# Altium integrated library Oscillators - Crystals.IntLib: 746 symbols (part 12 of 17)
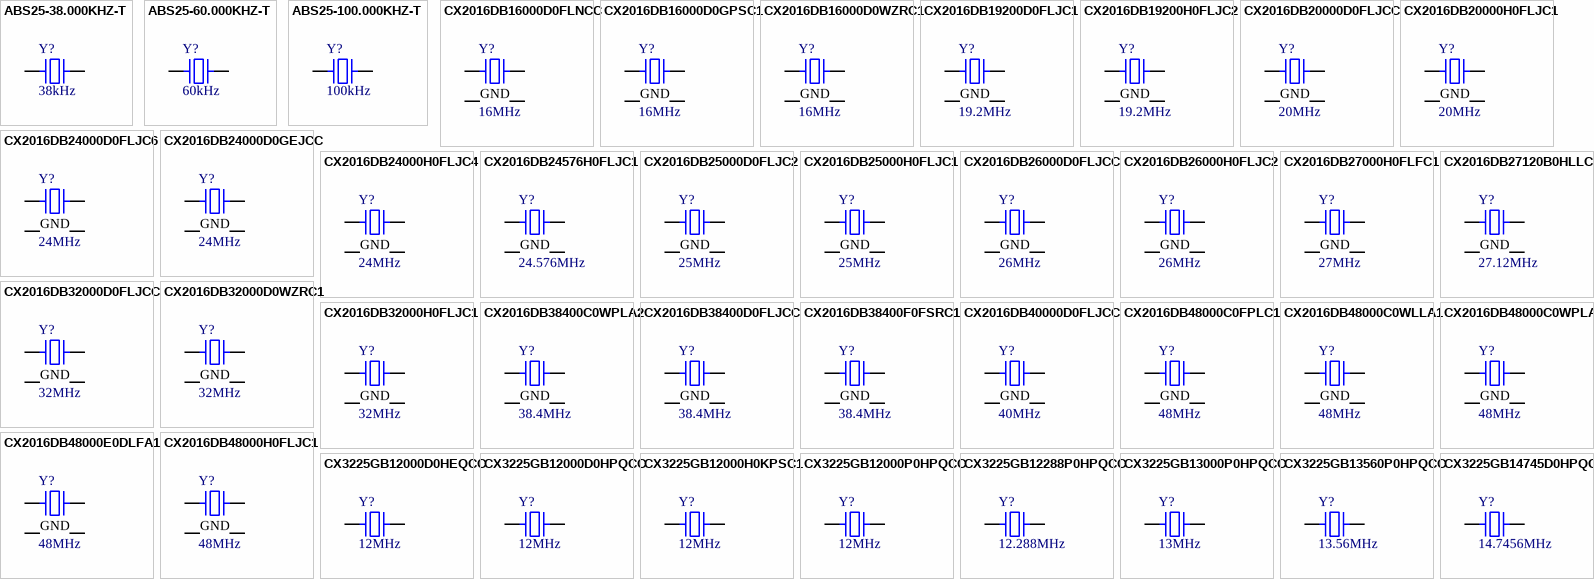
[diagram p29: symbols ABS25-38.000KHZ-T to CX3225GB14745D0HPQCC]

## CX2016DB32000H0FLJC1
designator Y?, comment 32MHz
CRYSTAL 32.0000MHZ 12PF SMD; Part Number: CX2016DB32000H0FLJC1; Manufacturer: Kyocera International Inc. Electronic Components; ESR (Equivalent Series Resistance): 60 Ohms; Frequency Stability: ±15ppm; Frequency Tolerance: ±10ppm; Operating Mode: Fundamental; ComponentLink1Description: Datasheet; ComponentLink1URL: //media.digikey.com/pdf/Data%20Sheets/AVX%20PDFs/CX2016DB_USY1M-H1-16426-00_Spec.pdf; ComponentLink2Description: DigiKey Link; ComponentLink2URL: http://digikey.com/product-detail/en/kyocera-international-inc-electronic-components/CX2016DB32000H0FLJC1/1253-1711-1-ND/6123338; Frequency: 32MHz; Height - Seated (Max): 0.018" (0.45mm); LastUpdated: 9/2/2020 1:21:56 AM; Lifecycle Status: Active; Load Capacitance: 12pF; Minimum Order: 1; Mounting Type: Surface Mount; Operating Temperature: -30°C ~ 85°C; Package / Case: 4-SMD, No Lead; Packaging: TapeAndReel; PartId: 478; Part Status: Active; Price: 0.36; Series: CX2016DB, Kyocera; Size / Dimension: 0.079" L x 0.063" W (2.00mm x 1.60mm); Supplier 1: DigiKey; Supplier Part Number 1: 1253-1711-1-ND; Type: MHz Crystal; Value: 32MHz
footprint KYOCERA CX2016DB
pins: 1, 2 GND, 3, 4 GND

## CX2016DB38400C0WPLA2
designator Y?, comment 38.4MHz
CRYSTAL 38.4000MHZ 7PF SMD; Part Number: CX2016DB38400C0WPLA2; Manufacturer: Kyocera International Inc. Electronic Components; ESR (Equivalent Series Resistance): 60 Ohms; Frequency Stability: ±20ppm; Operating Mode: Fundamental; ComponentLink1Description: Datasheet; ComponentLink1URL: https://global.kyocera.com/prdct/electro/product/pdf/cx2016db_e.pdf; ComponentLink2Description: DigiKey Link; ComponentLink2URL: http://digikey.com/product-detail/en/kyocera-international-inc-electronic-components/CX2016DB38400C0WPLA2/1253-1782-1-ND/6554924; Frequency: 38.4MHz; Frequency Tolerance: ±20ppm; Height - Seated (Max): 0.018" (0.45mm); LastUpdated: 9/2/2020 1:21:56 AM; Lifecycle Status: Active; Load Capacitance: 7pF; Minimum Order: 1; Mounting Type: Surface Mount; Operating Temperature: -40°C ~ 85°C; Package / Case: 4-SMD, No Lead; Packaging: TapeAndReel; PartId: 464; Part Status: Active; Price: 0.32; Series: CX2016DB, Kyocera; Size / Dimension: 0.079" L x 0.063" W (2.00mm x 1.60mm); Supplier 1: DigiKey; Supplier Part Number 1: 1253-1782-1-ND; Type: MHz Crystal; Value: 38.4MHz
footprint KYOCERA CX2016DB
pins: 1, 2 GND, 3, 4 GND

## CX2016DB38400D0FLJCC
designator Y?, comment 38.4MHz
CRYSTAL 38.4000MHZ 8PF SMD; Part Number: CX2016DB38400D0FLJCC; Manufacturer: Kyocera International Inc. Electronic Components; ESR (Equivalent Series Resistance): 60 Ohms; Frequency Stability: ±15ppm; Frequency Tolerance: ±10ppm; Operating Mode: Fundamental; ComponentLink1Description: Datasheet; ComponentLink1URL: //media.digikey.com/pdf/Data%20Sheets/Optrex%20PDFs/CX2016DB_Series_Spec.pdf; ComponentLink2Description: DigiKey Link; ComponentLink2URL: http://digikey.com/product-detail/en/kyocera-international-inc-electronic-components/CX2016DB38400D0FLJCC/1253-1119-1-ND/4453937; Frequency: 38.4MHz; Height - Seated (Max): 0.018" (0.45mm); LastUpdated: 9/2/2020 1:21:56 AM; Lifecycle Status: Active; Load Capacitance: 8pF; Minimum Order: 1; Mounting Type: Surface Mount; Operating Temperature: -30°C ~ 85°C; Package / Case: 4-SMD, No Lead; Packaging: TapeAndReel; PartId: 465; Part Status: Active; Price: 0.36; Series: CX2016DB, Kyocera; Size / Dimension: 0.079" L x 0.063" W (2.00mm x 1.60mm); Supplier 1: DigiKey; Supplier Part Number 1: 1253-1119-1-ND; Type: MHz Crystal; Value: 38.4MHz
footprint KYOCERA CX2016DB
pins: 1, 2 GND, 3, 4 GND

## CX2016DB38400F0FSRC1
designator Y?, comment 38.4MHz
CRYSTAL 38.4MHZ 10PF; Part Number: CX2016DB38400F0FSRC1; Manufacturer: Kyocera International Inc. Electronic Components; ESR (Equivalent Series Resistance): 40 Ohms; Frequency Stability: ±40ppm; Frequency Tolerance: ±10ppm; Operating Mode: Fundamental; ComponentLink1Description: Datasheet; ComponentLink1URL: //media.digikey.com/pdf/Data%20Sheets/Kyocera%20International/CX2016DB38400F0FSRC1_Prelim.pdf; ComponentLink2Description: DigiKey Link; ComponentLink2URL: http://digikey.com/product-detail/en/kyocera-international-inc-electronic-components/CX2016DB38400F0FSRC1/1253-2044-1-ND/9749122; Frequency: 38.4MHz; Height - Seated (Max): 0.018" (0.45mm); LastUpdated: 9/2/2020 1:21:56 AM; Lifecycle Status: Active; Load Capacitance: 10pF; Minimum Order: 1; Mounting Type: Surface Mount; Operating Temperature: -40°C ~ 125°C; Package / Case: 4-SMD, No Lead; Packaging: TapeAndReel; PartId: 460; Part Status: Active; Price: 0.58; Series: CX2016DB, Kyocera; Size / Dimension: 0.079" L x 0.063" W (2.00mm x 1.60mm); Supplier 1: DigiKey; Supplier Part Number 1: 1253-2044-1-ND; Type: MHz Crystal; Value: 38.4MHz
footprint KYOCERA CX2016DB
pins: 1, 2 GND, 3, 4 GND

## CX2016DB40000D0FLJCC
designator Y?, comment 40MHz
CRYSTAL 40.0000MHZ 8PF SMD; Part Number: CX2016DB40000D0FLJCC; Manufacturer: Kyocera International Inc. Electronic Components; ESR (Equivalent Series Resistance): 50 Ohms; Frequency Stability: ±15ppm; Frequency Tolerance: ±10ppm; Operating Mode: Fundamental; ComponentLink1Description: Datasheet; ComponentLink1URL: //media.digikey.com/pdf/Data%20Sheets/Optrex%20PDFs/CX2016DB_Series_Spec.pdf; ComponentLink2Description: DigiKey Link; ComponentLink2URL: http://digikey.com/product-detail/en/kyocera-international-inc-electronic-components/CX2016DB40000D0FLJCC/1253-1120-1-ND/4453938; Frequency: 40MHz; Height - Seated (Max): 0.018" (0.45mm); LastUpdated: 9/2/2020 1:21:56 AM; Lifecycle Status: Active; Load Capacitance: 8pF; Minimum Order: 1; Mounting Type: Surface Mount; Operating Temperature: -30°C ~ 85°C; Package / Case: 4-SMD, No Lead; Packaging: TapeAndReel; PartId: 471; Part Status: Active; Price: 0.48; Series: CX2016DB, Kyocera; Size / Dimension: 0.079" L x 0.063" W (2.00mm x 1.60mm); Supplier 1: DigiKey; Supplier Part Number 1: 1253-1120-1-ND; Type: MHz Crystal; Value: 40MHz
footprint KYOCERA CX2016DB
pins: 1, 2 GND, 3, 4 GND

## CX2016DB48000C0FPLC1
designator Y?, comment 48MHz
CRYSTAL 48MHZ SMD; Part Number: CX2016DB48000C0FPLC1; Manufacturer: Kyocera International Inc. Electronic Components; ESR (Equivalent Series Resistance): 50 Ohms; Frequency Stability: ±20ppm; Frequency Tolerance: ±10ppm; Load Capacitance: 7pF; Operating Mode: Fundamental; ComponentLink1Description: Datasheet; ComponentLink1URL: //media.digikey.com/pdf/Data%20Sheets/Kyocera%20International/CX2016DB48000C0FPLC1_DS.pdf; ComponentLink2Description: DigiKey Link; ComponentLink2URL: http://digikey.com/product-detail/en/kyocera-international-inc-electronic-components/CX2016DB48000C0FPLC1/1253-2042-1-ND/9698139; Frequency: 48MHz; Height - Seated (Max): 0.018" (0.45mm); LastUpdated: 9/2/2020 1:21:56 AM; Lifecycle Status: Active; Minimum Order: 1; Mounting Type: Surface Mount; Operating Temperature: -40°C ~ 85°C; Package / Case: 4-SMD, No Lead; Packaging: TapeAndReel; PartId: 459; Part Status: Active; Price: 0.38; Series: CX2016DB, Kyocera; Size / Dimension: 0.079" L x 0.063" W (2.00mm x 1.60mm); Supplier 1: DigiKey; Supplier Part Number 1: 1253-2042-1-ND; Type: MHz Crystal; Value: 48MHz
footprint KYOCERA CX2016DB
pins: 1, 2 GND, 3, 4 GND

## CX2016DB48000C0WLLA1
designator Y?, comment 48MHz
CRYSTAL 48MHZ 7PF SMD; Part Number: CX2016DB48000C0WLLA1; Manufacturer: Kyocera International Inc. Electronic Components; ESR (Equivalent Series Resistance): 50 Ohms; Frequency Stability: ±20ppm; Operating Mode: Fundamental; ComponentLink1Description: Datasheet; ComponentLink1URL: https://global.kyocera.com/prdct/electro/product/pdf/cx2016db_e.pdf; ComponentLink2Description: DigiKey Link; ComponentLink2URL: http://digikey.com/product-detail/en/kyocera-international-inc-electronic-components/CX2016DB48000C0WLLA1/1253-1388-1-ND/5181912; Frequency: 48MHz; Frequency Tolerance: ±20ppm; Height - Seated (Max): 0.018" (0.45mm); LastUpdated: 9/2/2020 1:21:56 AM; Lifecycle Status: Active; Load Capacitance: 7pF; Minimum Order: 1; Mounting Type: Surface Mount; Operating Temperature: -30°C ~ 85°C; Package / Case: 4-SMD, No Lead; Packaging: TapeAndReel; PartId: 483; Part Status: Active; Price: 0.41; Series: CX2016DB, Kyocera; Size / Dimension: 0.079" L x 0.063" W (2.00mm x 1.60mm); Supplier 1: DigiKey; Supplier Part Number 1: 1253-1388-1-ND; Type: MHz Crystal; Value: 48MHz
footprint KYOCERA CX2016DB
pins: 1, 2 GND, 3, 4 GND

## CX2016DB48000C0WPLA2
designator Y?, comment 48MHz
CRYSTAL 48.0000MHZ 7PF SMD; Part Number: CX2016DB48000C0WPLA2; Manufacturer: Kyocera International Inc. Electronic Components; ESR (Equivalent Series Resistance): 50 Ohms; Frequency Stability: ±15ppm; Frequency Tolerance: ±20ppm; Operating Mode: Fundamental; ComponentLink1Description: Datasheet; ComponentLink1URL: https://global.kyocera.com/prdct/electro/product/pdf/cx2016db_e.pdf; ComponentLink2Description: DigiKey Link; ComponentLink2URL: http://digikey.com/product-detail/en/kyocera-international-inc-electronic-components/CX2016DB48000C0WPLA2/1253-1345-1-ND/4896435; Frequency: 48MHz; Height - Seated (Max): 0.018" (0.45mm); LastUpdated: 9/2/2020 1:21:56 AM; Lifecycle Status: Active; Load Capacitance: 7pF; Minimum Order: 1; Mounting Type: Surface Mount; Operating Temperature: -40°C ~ 85°C; Package / Case: 4-SMD, No Lead; Packaging: TapeAndReel; PartId: 472; Part Status: Active; Price: 0.48; Series: CX2016DB, Kyocera; Size / Dimension: 0.079" L x 0.063" W (2.00mm x 1.60mm); Supplier 1: DigiKey; Supplier Part Number 1: 1253-1345-1-ND; Type: MHz Crystal; Value: 48MHz
footprint KYOCERA CX2016DB
pins: 1, 2 GND, 3, 4 GND

## CX2016DB48000E0DLFA1
designator Y?, comment 48MHz
CRYSTALS 48.0000MHZ 9PF SMD; Part Number: CX2016DB48000E0DLFA1; Manufacturer: Kyocera International Inc. Electronic Components; ESR (Equivalent Series Resistance): 50 Ohms; Frequency Stability: ±10ppm; Frequency Tolerance: ±8ppm; Load Capacitance: 11.1pF; Operating Mode: Fundamental; ComponentLink1Description: Datasheet; ComponentLink1URL: //media.digikey.com/pdf/Data%20Sheets/AVX%20PDFs/CX2016DB48000E0DLFA1_Spec.pdf; ComponentLink2Description: DigiKey Link; ComponentLink2URL: http://digikey.com/product-detail/en/kyocera-international-inc-electronic-components/CX2016DB48000E0DLFA1/1253-1783-1-ND/6563405; Frequency: 48MHz; Height - Seated (Max): 0.018" (0.45mm); LastUpdated: 9/2/2020 1:21:56 AM; Lifecycle Status: Active; Minimum Order: 1; Mounting Type: Surface Mount; Operating Temperature: -30°C ~ 85°C; Package / Case: 4-SMD, No Lead; Packaging: TapeAndReel; PartId: 462; Part Status: Active; Price: 0.59; Series: CX2016DB, Kyocera; Size / Dimension: 0.079" L x 0.063" W (2.00mm x 1.60mm); Supplier 1: DigiKey; Supplier Part Number 1: 1253-1783-1-ND; Type: MHz Crystal; Value: 48MHz
footprint KYOCERA CX2016DB
pins: 1, 2 GND, 3, 4 GND

## CX2016DB48000H0FLJC1
designator Y?, comment 48MHz
CRYSTAL 48.0000MHZ 12PF SMD; Part Number: CX2016DB48000H0FLJC1; Manufacturer: Kyocera International Inc. Electronic Components; ESR (Equivalent Series Resistance): 50 Ohms; Frequency Stability: ±15ppm; Frequency Tolerance: ±10ppm; Operating Mode: Fundamental; ComponentLink1Description: Datasheet; ComponentLink1URL: //media.digikey.com/pdf/Data%20Sheets/AVX%20PDFs/CX2016DB_USY1M-H1-16426-00_Spec.pdf; ComponentLink2Description: DigiKey Link; ComponentLink2URL: http://digikey.com/product-detail/en/kyocera-international-inc-electronic-components/CX2016DB48000H0FLJC1/1253-1712-1-ND/6123339; Frequency: 48MHz; Height - Seated (Max): 0.018" (0.45mm); LastUpdated: 9/2/2020 1:21:56 AM; Lifecycle Status: Active; Load Capacitance: 12pF; Minimum Order: 1; Mounting Type: Surface Mount; Operating Temperature: -30°C ~ 85°C; Package / Case: 4-SMD, No Lead; Packaging: TapeAndReel; PartId: 480; Part Status: Active; Price: 0.36; Series: CX2016DB, Kyocera; Size / Dimension: 0.079" L x 0.063" W (2.00mm x 1.60mm); Supplier 1: DigiKey; Supplier Part Number 1: 1253-1712-1-ND; Type: MHz Crystal; Value: 48MHz
footprint KYOCERA CX2016DB
pins: 1, 2 GND, 3, 4 GND

## CX3225GB12000D0HEQCC
designator Y?, comment 12MHz
CRYSTAL 12.0000MHZ 8PF SMD; Part Number: CX3225GB12000D0HEQCC; Manufacturer: Kyocera International Inc. Electronic Components; ESR (Equivalent Series Resistance): 250 Ohms; Frequency Stability: ±30ppm; Frequency Tolerance: ±20ppm; Operating Mode: Fundamental; ComponentLink1Description: Datasheet; ComponentLink1URL: //media.digikey.com/pdf/Data%20Sheets/AVX%20PDFs/CX3225GBxD0HEQ_Series_Spec.pdf; ComponentLink2Description: DigiKey Link; ComponentLink2URL: http://digikey.com/product-detail/en/kyocera-international-inc-electronic-components/CX3225GB12000D0HEQCC/1253-1166-1-ND/4453982; Frequency: 12MHz; Height - Seated (Max): 0.035" (0.90mm); LastUpdated: 9/2/2020 1:21:57 AM; Lifecycle Status: Active; Load Capacitance: 8pF; Minimum Order: 1; Mounting Type: Surface Mount; Operating Temperature: -10°C ~ 70°C; Package / Case: 4-SMD, No Lead; Packaging: TapeAndReel; PartId: 487; Part Status: Active; Price: 0.33; Series: CX3225GB, Kyocera; Size / Dimension: 0.126" L x 0.098" W (3.20mm x 2.50mm); Supplier 1: DigiKey; Supplier Part Number 1: 1253-1166-1-ND; Type: MHz Crystal; Value: 12MHz
footprint KYOCERA CX3225GB
pins: 1, 3

## CX3225GB12000D0HPQCC
designator Y?, comment 12MHz
CRYSTAL 12.0000MHZ 8PF SMD; Part Number: CX3225GB12000D0HPQCC; Manufacturer: Kyocera International Inc. Electronic Components; ESR (Equivalent Series Resistance): 250 Ohms; Frequency Stability: ±30ppm; Frequency Tolerance: ±20ppm; Operating Mode: Fundamental; ComponentLink1Description: Datasheet; ComponentLink1URL: //media.digikey.com/pdf/Data%20Sheets/AVX%20PDFs/CX3225GBxD0HPQCC_Series_Spec.pdf; ComponentLink2Description: DigiKey Link; ComponentLink2URL: http://digikey.com/product-detail/en/kyocera-international-inc-electronic-components/CX3225GB12000D0HPQCC/1253-1167-1-ND/4454003; Frequency: 12MHz; Height - Seated (Max): 0.035" (0.90mm); LastUpdated: 9/2/2020 1:21:57 AM; Lifecycle Status: Active; Load Capacitance: 8pF; Minimum Order: 1; Mounting Type: Surface Mount; Operating Temperature: -40°C ~ 85°C; Package / Case: 4-SMD, No Lead; Packaging: TapeAndReel; PartId: 489; Part Status: Active; Price: 0.35; Series: CX3225GB, Kyocera; Size / Dimension: 0.126" L x 0.098" W (3.20mm x 2.50mm); Supplier 1: DigiKey; Supplier Part Number 1: 1253-1167-1-ND; Type: MHz Crystal; Value: 12MHz
footprint KYOCERA CX3225GB
pins: 1, 3

## CX3225GB12000H0KPSC1
designator Y?, comment 12MHz
CRYSTAL 12.0000MHZ 12PF SMD; Part Number: CX3225GB12000H0KPSC1; Manufacturer: Kyocera International Inc. Electronic Components; ESR (Equivalent Series Resistance): 150 Ohms; Frequency Stability: ±50ppm; Frequency Tolerance: ±30ppm; Operating Mode: Fundamental; ComponentLink1Description: Datasheet; ComponentLink1URL: //media.digikey.com/pdf/Data%20Sheets/AVX%20PDFs/CX3225GB12000H0KPSC1_Spec.pdf; ComponentLink2Description: DigiKey Link; ComponentLink2URL: http://digikey.com/product-detail/en/kyocera-international-inc-electronic-components/CX3225GB12000H0KPSC1/1253-1596-1-ND/5765377; Frequency: 12MHz; Height - Seated (Max): 0.035" (0.90mm); LastUpdated: 9/2/2020 1:21:57 AM; Lifecycle Status: Active; Load Capacitance: 12pF; Minimum Order: 1; Mounting Type: Surface Mount; Operating Temperature: -40°C ~ 85°C; Package / Case: 4-SMD, No Lead; Packaging: TapeAndReel; PartId: 503; Part Status: Active; Price: 0.32; Series: CX3225GB, Kyocera; Size / Dimension: 0.126" L x 0.098" W (3.20mm x 2.50mm); Supplier 1: DigiKey; Supplier Part Number 1: 1253-1596-1-ND; Type: MHz Crystal; Value: 12MHz
footprint KYOCERA CX3225GB
pins: 1, 3

## CX3225GB12000P0HPQCC
designator Y?, comment 12MHz
CRYSTAL 12.0000MHZ 18PF SMD; Part Number: CX3225GB12000P0HPQCC; Manufacturer: Kyocera International Inc. Electronic Components; ESR (Equivalent Series Resistance): 250 Ohms; Frequency Stability: ±30ppm; Frequency Tolerance: ±20ppm; Operating Mode: Fundamental; ComponentLink1Description: Datasheet; ComponentLink1URL: //media.digikey.com/pdf/Data%20Sheets/AVX%20PDFs/CX3225GB_Series_Spec.pdf; ComponentLink2Description: DigiKey Link; ComponentLink2URL: http://digikey.com/product-detail/en/kyocera-international-inc-electronic-components/CX3225GB12000P0HPQCC/1253-1168-1-ND/4454024; Frequency: 12MHz; Height - Seated (Max): 0.035" (0.90mm); LastUpdated: 9/2/2020 1:21:57 AM; Lifecycle Status: Active; Load Capacitance: 18pF; Minimum Order: 1; Mounting Type: Surface Mount; Operating Temperature: -40°C ~ 85°C; Package / Case: 4-SMD, No Lead; Packaging: TapeAndReel; PartId: 492; Part Status: Active; Price: 0.35; Series: CX3225GB, Kyocera; Size / Dimension: 0.126" L x 0.098" W (3.20mm x 2.50mm); Supplier 1: DigiKey; Supplier Part Number 1: 1253-1168-1-ND; Type: MHz Crystal; Value: 12MHz
footprint KYOCERA CX3225GB
pins: 1, 3

## CX3225GB12288P0HPQCC
designator Y?, comment 12.288MHz
CRYSTAL 12.2880MHZ 18PF SMD; Part Number: CX3225GB12288P0HPQCC; Manufacturer: Kyocera International Inc. Electronic Components; ESR (Equivalent Series Resistance): 250 Ohms; Frequency Stability: ±30ppm; Frequency Tolerance: ±20ppm; Operating Mode: Fundamental; ComponentLink1Description: Datasheet; ComponentLink1URL: //media.digikey.com/pdf/Data%20Sheets/AVX%20PDFs/CX3225GB_Series_Spec.pdf; ComponentLink2Description: DigiKey Link; ComponentLink2URL: http://digikey.com/product-detail/en/kyocera-international-inc-electronic-components/CX3225GB12288P0HPQCC/1253-1169-1-ND/4454025; Frequency: 12.288MHz; Height - Seated (Max): 0.035" (0.90mm); LastUpdated: 9/2/2020 1:21:57 AM; Lifecycle Status: Active; Load Capacitance: 18pF; Minimum Order: 1; Mounting Type: Surface Mount; Operating Temperature: -40°C ~ 85°C; Package / Case: 4-SMD, No Lead; Packaging: TapeAndReel; PartId: 509; Part Status: Active; Price: 0.41; Series: CX3225GB, Kyocera; Size / Dimension: 0.126" L x 0.098" W (3.20mm x 2.50mm); Supplier 1: DigiKey; Supplier Part Number 1: 1253-1169-1-ND; Type: MHz Crystal; Value: 12.288MHz
footprint KYOCERA CX3225GB
pins: 1, 3

## CX3225GB13000P0HPQCC
designator Y?, comment 13MHz
CRYSTAL 13.0000MHZ 18PF SMD; Part Number: CX3225GB13000P0HPQCC; Manufacturer: Kyocera International Inc. Electronic Components; ESR (Equivalent Series Resistance): 250 Ohms; Frequency Stability: ±30ppm; Frequency Tolerance: ±20ppm; Operating Mode: Fundamental; ComponentLink1Description: Datasheet; ComponentLink1URL: //media.digikey.com/pdf/Data%20Sheets/AVX%20PDFs/CX3225GB_Series_Spec.pdf; ComponentLink2Description: DigiKey Link; ComponentLink2URL: http://digikey.com/product-detail/en/kyocera-international-inc-electronic-components/CX3225GB13000P0HPQCC/1253-1170-1-ND/4454026; Frequency: 13MHz; Height - Seated (Max): 0.035" (0.90mm); LastUpdated: 9/2/2020 1:21:56 AM; Lifecycle Status: Active; Load Capacitance: 18pF; Minimum Order: 1; Mounting Type: Surface Mount; Operating Temperature: -40°C ~ 85°C; Package / Case: 4-SMD, No Lead; Packaging: TapeAndReel; PartId: 513; Part Status: Active; Price: 0.39; Series: CX3225GB, Kyocera; Size / Dimension: 0.126" L x 0.098" W (3.20mm x 2.50mm); Supplier 1: DigiKey; Supplier Part Number 1: 1253-1170-1-ND; Type: MHz Crystal; Value: 13MHz
footprint KYOCERA CX3225GB
pins: 1, 3

## CX3225GB13560P0HPQCC
designator Y?, comment 13.56MHz
CRYSTAL 13.5600MHZ 18PF SMD; Part Number: CX3225GB13560P0HPQCC; Manufacturer: Kyocera International Inc. Electronic Components; ESR (Equivalent Series Resistance): 250 Ohms; Frequency Stability: ±30ppm; Frequency Tolerance: ±20ppm; Operating Mode: Fundamental; ComponentLink1Description: Datasheet; ComponentLink1URL: //media.digikey.com/pdf/Data%20Sheets/AVX%20PDFs/CX3225GB_Series_Spec.pdf; ComponentLink2Description: DigiKey Link; ComponentLink2URL: http://digikey.com/product-detail/en/kyocera-international-inc-electronic-components/CX3225GB13560P0HPQCC/1253-1173-1-ND/4454027; Frequency: 13.56MHz; Height - Seated (Max): 0.035" (0.90mm); LastUpdated: 9/2/2020 1:21:56 AM; Lifecycle Status: Active; Load Capacitance: 18pF; Minimum Order: 1; Mounting Type: Surface Mount; Operating Temperature: -40°C ~ 85°C; Package / Case: 4-SMD, No Lead; Packaging: TapeAndReel; PartId: 512; Part Status: Active; Price: 0.39; Series: CX3225GB, Kyocera; Size / Dimension: 0.126" L x 0.098" W (3.20mm x 2.50mm); Supplier 1: DigiKey; Supplier Part Number 1: 1253-1173-1-ND; Type: MHz Crystal; Value: 13.56MHz
footprint KYOCERA CX3225GB
pins: 1, 3

## CX3225GB14745D0HPQCC
designator Y?, comment 14.7456MHz
CRYSTAL 14.7456MHZ 8PF SMD; Part Number: CX3225GB14745D0HPQCC; Manufacturer: Kyocera International Inc. Electronic Components; ESR (Equivalent Series Resistance): 100 Ohms; Frequency Stability: ±30ppm; Frequency Tolerance: ±20ppm; Operating Mode: Fundamental; ComponentLink1Description: Datasheet; ComponentLink1URL: //media.digikey.com/pdf/Data%20Sheets/AVX%20PDFs/CX3225GBxD0HPQCC_Series_Spec.pdf; ComponentLink2Description: DigiKey Link; ComponentLink2URL: http://digikey.com/product-detail/en/kyocera-international-inc-electronic-components/CX3225GB14745D0HPQCC/1253-1178-1-ND/4454006; Frequency: 14.7456MHz; Height - Seated (Max): 0.035" (0.90mm); LastUpdated: 9/2/2020 1:21:56 AM; Lifecycle Status: Active; Load Capacitance: 8pF; Minimum Order: 1; Mounting Type: Surface Mount; Operating Temperature: -40°C ~ 85°C; Package / Case: 4-SMD, No Lead; Packaging: TapeAndReel; PartId: 510; Part Status: Active; Price: 0.41; Series: CX3225GB, Kyocera; Size / Dimension: 0.126" L x 0.098" W (3.20mm x 2.50mm); Supplier 1: DigiKey; Supplier Part Number 1: 1253-1178-1-ND; Type: MHz Crystal; Value: 14.7456MHz
footprint KYOCERA CX3225GB
pins: 1, 3

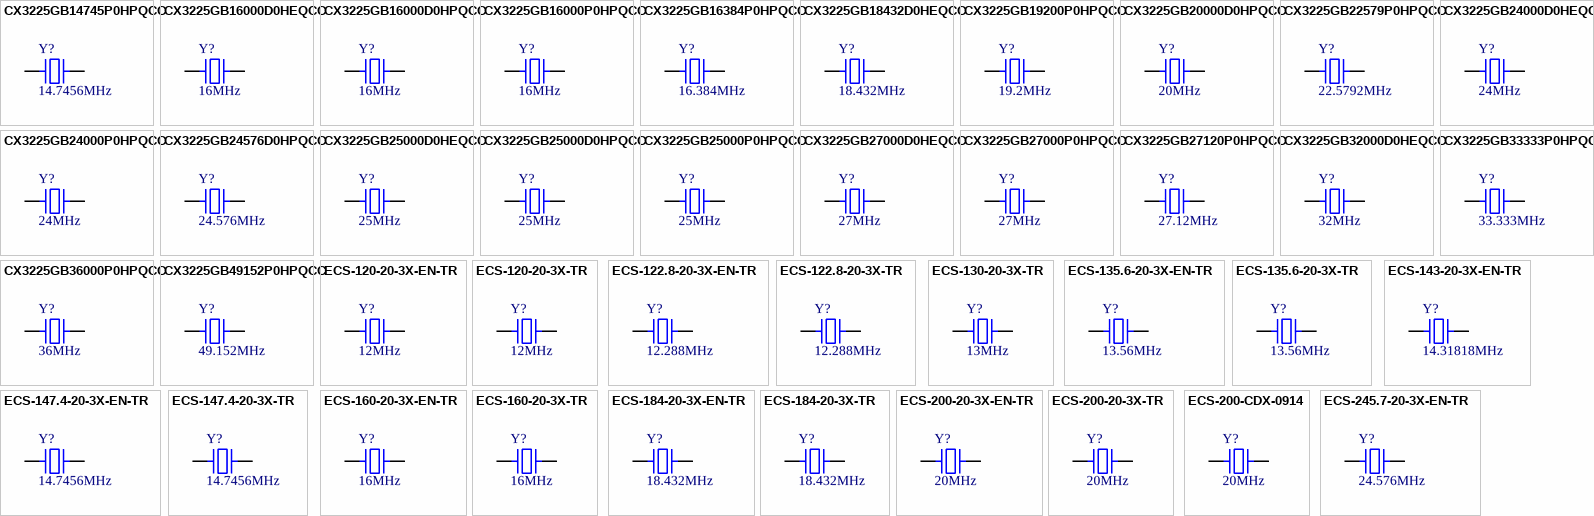
[diagram p13: symbols CX3225GB14745P0HPQCC to ECS-245.7-20-3X-EN-TR]

## CX3225GB14745P0HPQCC
designator Y?, comment 14.7456MHz
CRYSTAL 14.7456MHZ 18PF SMD; Part Number: CX3225GB14745P0HPQCC; Manufacturer: Kyocera International Inc. Electronic Components; ESR (Equivalent Series Resistance): 100 Ohms; Frequency Stability: ±30ppm; Frequency Tolerance: ±20ppm; Operating Mode: Fundamental; ComponentLink1Description: Datasheet; ComponentLink1URL: //media.digikey.com/pdf/Data%20Sheets/AVX%20PDFs/CX3225GB_Series_Spec.pdf; ComponentLink2Description: DigiKey Link; ComponentLink2URL: http://digikey.com/product-detail/en/kyocera-international-inc-electronic-components/CX3225GB14745P0HPQCC/1253-1179-1-ND/4454029; Frequency: 14.7456MHz; Height - Seated (Max): 0.035" (0.90mm); LastUpdated: 9/2/2020 1:21:57 AM; Lifecycle Status: Active; Load Capacitance: 18pF; Minimum Order: 1; Mounting Type: Surface Mount; Operating Temperature: -40°C ~ 85°C; Package / Case: 4-SMD, No Lead; Packaging: TapeAndReel; PartId: 496; Part Status: Active; Price: 0.39; Series: CX3225GB, Kyocera; Size / Dimension: 0.126" L x 0.098" W (3.20mm x 2.50mm); Supplier 1: DigiKey; Supplier Part Number 1: 1253-1179-1-ND; Type: MHz Crystal; Value: 14.7456MHz
footprint KYOCERA CX3225GB
pins: 1, 3

## CX3225GB16000D0HEQCC
designator Y?, comment 16MHz
CRYSTAL 16.0000MHZ 8PF SMD; Part Number: CX3225GB16000D0HEQCC; Manufacturer: Kyocera International Inc. Electronic Components; ESR (Equivalent Series Resistance): 80 Ohms; Frequency Stability: ±30ppm; Frequency Tolerance: ±20ppm; Operating Mode: Fundamental; ComponentLink1Description: Datasheet; ComponentLink1URL: //media.digikey.com/pdf/Data%20Sheets/AVX%20PDFs/CX3225GBxD0HEQ_Series_Spec.pdf; ComponentLink2Description: DigiKey Link; ComponentLink2URL: http://digikey.com/product-detail/en/kyocera-international-inc-electronic-components/CX3225GB16000D0HEQCC/1253-1180-1-ND/4453986; Frequency: 16MHz; Height - Seated (Max): 0.035" (0.90mm); LastUpdated: 9/2/2020 1:21:57 AM; Lifecycle Status: Active; Load Capacitance: 8pF; Minimum Order: 1; Mounting Type: Surface Mount; Operating Temperature: -10°C ~ 70°C; Package / Case: 4-SMD, No Lead; Packaging: TapeAndReel; PartId: 485; Part Status: Active; Price: 0.33; Series: CX3225GB, Kyocera; Size / Dimension: 0.126" L x 0.098" W (3.20mm x 2.50mm); Supplier 1: DigiKey; Supplier Part Number 1: 1253-1180-1-ND; Type: MHz Crystal; Value: 16MHz
footprint KYOCERA CX3225GB
pins: 1, 3

## CX3225GB16000D0HPQCC
designator Y?, comment 16MHz
CRYSTAL 16.0000MHZ 8PF SMD; Part Number: CX3225GB16000D0HPQCC; Manufacturer: Kyocera International Inc. Electronic Components; ESR (Equivalent Series Resistance): 80 Ohms; Frequency Stability: ±30ppm; Frequency Tolerance: ±20ppm; Operating Mode: Fundamental; ComponentLink1Description: Datasheet; ComponentLink1URL: //media.digikey.com/pdf/Data%20Sheets/AVX%20PDFs/CX3225GBxD0HPQCC_Series_Spec.pdf; ComponentLink2Description: DigiKey Link; ComponentLink2URL: http://digikey.com/product-detail/en/kyocera-international-inc-electronic-components/CX3225GB16000D0HPQCC/1253-1181-1-ND/4454007; Frequency: 16MHz; Height - Seated (Max): 0.035" (0.90mm); LastUpdated: 9/2/2020 1:21:57 AM; Lifecycle Status: Active; Load Capacitance: 8pF; Minimum Order: 1; Mounting Type: Surface Mount; Operating Temperature: -40°C ~ 85°C; Package / Case: 4-SMD, No Lead; Packaging: TapeAndReel; PartId: 488; Part Status: Active; Price: 0.35; Series: CX3225GB, Kyocera; Size / Dimension: 0.126" L x 0.098" W (3.20mm x 2.50mm); Supplier 1: DigiKey; Supplier Part Number 1: 1253-1181-1-ND; Type: MHz Crystal; Value: 16MHz
footprint KYOCERA CX3225GB
pins: 1, 3

## CX3225GB16000P0HPQCC
designator Y?, comment 16MHz
CRYSTAL 16.0000MHZ 18PF SMD; Part Number: CX3225GB16000P0HPQCC; Manufacturer: Kyocera International Inc. Electronic Components; ESR (Equivalent Series Resistance): 80 Ohms; Frequency Stability: ±30ppm; Frequency Tolerance: ±20ppm; Operating Mode: Fundamental; ComponentLink1Description: Datasheet; ComponentLink1URL: //media.digikey.com/pdf/Data%20Sheets/AVX%20PDFs/CX3225GB_Series_Spec.pdf; ComponentLink2Description: DigiKey Link; ComponentLink2URL: http://digikey.com/product-detail/en/kyocera-international-inc-electronic-components/CX3225GB16000P0HPQCC/1253-1182-1-ND/4454030; Frequency: 16MHz; Height - Seated (Max): 0.035" (0.90mm); LastUpdated: 9/2/2020 1:21:57 AM; Lifecycle Status: Active; Load Capacitance: 18pF; Minimum Order: 1; Mounting Type: Surface Mount; Operating Temperature: -40°C ~ 85°C; Package / Case: 4-SMD, No Lead; Packaging: TapeAndReel; PartId: 490; Part Status: Active; Price: 0.35; Series: CX3225GB, Kyocera; Size / Dimension: 0.126" L x 0.098" W (3.20mm x 2.50mm); Supplier 1: DigiKey; Supplier Part Number 1: 1253-1182-1-ND; Type: MHz Crystal; Value: 16MHz
footprint KYOCERA CX3225GB
pins: 1, 3

## CX3225GB16384P0HPQCC
designator Y?, comment 16.384MHz
CRYSTAL 16.3840MHZ 18PF SMD; Part Number: CX3225GB16384P0HPQCC; Manufacturer: Kyocera International Inc. Electronic Components; ESR (Equivalent Series Resistance): 80 Ohms; Frequency Stability: ±30ppm; Frequency Tolerance: ±20ppm; Operating Mode: Fundamental; ComponentLink1Description: Datasheet; ComponentLink1URL: //media.digikey.com/pdf/Data%20Sheets/AVX%20PDFs/CX3225GB_Series_Spec.pdf; ComponentLink2Description: DigiKey Link; ComponentLink2URL: http://digikey.com/product-detail/en/kyocera-international-inc-electronic-components/CX3225GB16384P0HPQCC/1253-1183-1-ND/4454031; Frequency: 16.384MHz; Height - Seated (Max): 0.035" (0.90mm); LastUpdated: 9/2/2020 1:21:57 AM; Lifecycle Status: Active; Load Capacitance: 18pF; Minimum Order: 1; Mounting Type: Surface Mount; Operating Temperature: -40°C ~ 85°C; Package / Case: 4-SMD, No Lead; Packaging: TapeAndReel; PartId: 507; Part Status: Active; Price: 0.39; Series: CX3225GB, Kyocera; Size / Dimension: 0.126" L x 0.098" W (3.20mm x 2.50mm); Supplier 1: DigiKey; Supplier Part Number 1: 1253-1183-1-ND; Type: MHz Crystal; Value: 16.384MHz
footprint KYOCERA CX3225GB
pins: 1, 3

## CX3225GB18432D0HEQCC
designator Y?, comment 18.432MHz
CRYSTAL 18.4320MHZ 8PF SMD; Part Number: CX3225GB18432D0HEQCC; Manufacturer: Kyocera International Inc. Electronic Components; ESR (Equivalent Series Resistance): 80 Ohms; Frequency Stability: ±30ppm; Frequency Tolerance: ±20ppm; Operating Mode: Fundamental; ComponentLink1Description: Datasheet; ComponentLink1URL: //media.digikey.com/pdf/Data%20Sheets/AVX%20PDFs/CX3225GBxD0HEQ_Series_Spec.pdf; ComponentLink2Description: DigiKey Link; ComponentLink2URL: http://digikey.com/product-detail/en/kyocera-international-inc-electronic-components/CX3225GB18432D0HEQCC/1253-1184-1-ND/4453987; Frequency: 18.432MHz; Height - Seated (Max): 0.035" (0.90mm); LastUpdated: 9/2/2020 1:21:57 AM; Lifecycle Status: Active; Load Capacitance: 8pF; Minimum Order: 1; Mounting Type: Surface Mount; Operating Temperature: -10°C ~ 70°C; Package / Case: 4-SMD, No Lead; Packaging: TapeAndReel; PartId: 495; Part Status: Active; Price: 0.38; Series: CX3225GB, Kyocera; Size / Dimension: 0.126" L x 0.098" W (3.20mm x 2.50mm); Supplier 1: DigiKey; Supplier Part Number 1: 1253-1184-1-ND; Type: MHz Crystal; Value: 18.432MHz
footprint KYOCERA CX3225GB
pins: 1, 3

## CX3225GB19200P0HPQCC
designator Y?, comment 19.2MHz
CRYSTAL 19.2000MHZ 18PF SMD; Part Number: CX3225GB19200P0HPQCC; Manufacturer: Kyocera International Inc. Electronic Components; ESR (Equivalent Series Resistance): 80 Ohms; Frequency Stability: ±30ppm; Frequency Tolerance: ±20ppm; Operating Mode: Fundamental; ComponentLink1Description: Datasheet; ComponentLink1URL: //media.digikey.com/pdf/Data%20Sheets/AVX%20PDFs/CX3225GB_Series_Spec.pdf; ComponentLink2Description: DigiKey Link; ComponentLink2URL: http://digikey.com/product-detail/en/kyocera-international-inc-electronic-components/CX3225GB19200P0HPQCC/1253-1189-1-ND/4454033; Frequency: 19.2MHz; Height - Seated (Max): 0.035" (0.90mm); LastUpdated: 9/2/2020 1:21:57 AM; Lifecycle Status: Active; Load Capacitance: 18pF; Minimum Order: 1; Mounting Type: Surface Mount; Operating Temperature: -40°C ~ 85°C; Package / Case: 4-SMD, No Lead; Packaging: TapeAndReel; PartId: 506; Part Status: Active; Price: 0.39; Series: CX3225GB, Kyocera; Size / Dimension: 0.126" L x 0.098" W (3.20mm x 2.50mm); Supplier 1: DigiKey; Supplier Part Number 1: 1253-1189-1-ND; Type: MHz Crystal; Value: 19.2MHz
footprint KYOCERA CX3225GB
pins: 1, 3

## CX3225GB20000D0HPQCC
designator Y?, comment 20MHz
CRYSTAL 20.0000MHZ 8PF SMD; Part Number: CX3225GB20000D0HPQCC; Manufacturer: Kyocera International Inc. Electronic Components; ESR (Equivalent Series Resistance): 60 Ohms; Frequency Stability: ±30ppm; Frequency Tolerance: ±20ppm; Operating Mode: Fundamental; ComponentLink1Description: Datasheet; ComponentLink1URL: //media.digikey.com/pdf/Data%20Sheets/AVX%20PDFs/CX3225GBxD0HPQCC_Series_Spec.pdf; ComponentLink2Description: DigiKey Link; ComponentLink2URL: http://digikey.com/product-detail/en/kyocera-international-inc-electronic-components/CX3225GB20000D0HPQCC/1253-1191-1-ND/4454010; Frequency: 20MHz; Height - Seated (Max): 0.035" (0.90mm); LastUpdated: 9/2/2020 1:21:57 AM; Lifecycle Status: Active; Load Capacitance: 8pF; Minimum Order: 1; Mounting Type: Surface Mount; Operating Temperature: -40°C ~ 85°C; Package / Case: 4-SMD, No Lead; Packaging: TapeAndReel; PartId: 508; Part Status: Active; Price: 0.39; Series: CX3225GB, Kyocera; Size / Dimension: 0.126" L x 0.098" W (3.20mm x 2.50mm); Supplier 1: DigiKey; Supplier Part Number 1: 1253-1191-1-ND; Type: MHz Crystal; Value: 20MHz
footprint KYOCERA CX3225GB
pins: 1, 3

## CX3225GB22579P0HPQCC
designator Y?, comment 22.5792MHz
CRYSTAL 22.5792MHZ 18PF SMD; Part Number: CX3225GB22579P0HPQCC; Manufacturer: Kyocera International Inc. Electronic Components; ESR (Equivalent Series Resistance): 60 Ohms; Frequency Stability: ±30ppm; Frequency Tolerance: ±20ppm; Operating Mode: Fundamental; ComponentLink1Description: Datasheet; ComponentLink1URL: //media.digikey.com/pdf/Data%20Sheets/AVX%20PDFs/CX3225GB_Series_Spec.pdf; ComponentLink2Description: DigiKey Link; ComponentLink2URL: http://digikey.com/product-detail/en/kyocera-international-inc-electronic-components/CX3225GB22579P0HPQCC/1253-1195-1-ND/4454035; Frequency: 22.5792MHz; Height - Seated (Max): 0.035" (0.90mm); LastUpdated: 9/2/2020 1:21:57 AM; Lifecycle Status: Active; Load Capacitance: 18pF; Minimum Order: 1; Mounting Type: Surface Mount; Operating Temperature: -40°C ~ 85°C; Package / Case: 4-SMD, No Lead; Packaging: TapeAndReel; PartId: 497; Part Status: Active; Price: 0.39; Series: CX3225GB, Kyocera; Size / Dimension: 0.126" L x 0.098" W (3.20mm x 2.50mm); Supplier 1: DigiKey; Supplier Part Number 1: 1253-1195-1-ND; Type: MHz Crystal; Value: 22.5792MHz
footprint KYOCERA CX3225GB
pins: 1, 3

## CX3225GB24000D0HEQCC
designator Y?, comment 24MHz
CRYSTAL 24.0000MHZ 8PF SMD; Part Number: CX3225GB24000D0HEQCC; Manufacturer: Kyocera International Inc. Electronic Components; ESR (Equivalent Series Resistance): 60 Ohms; Frequency Stability: ±30ppm; Frequency Tolerance: ±20ppm; Operating Mode: Fundamental; ComponentLink1Description: Datasheet; ComponentLink1URL: //media.digikey.com/pdf/Data%20Sheets/AVX%20PDFs/CX3225GBxD0HEQ_Series_Spec.pdf; ComponentLink2Description: DigiKey Link; ComponentLink2URL: http://digikey.com/product-detail/en/kyocera-international-inc-electronic-components/CX3225GB24000D0HEQCC/1253-1196-1-ND/4453991; Frequency: 24MHz; Height - Seated (Max): 0.035" (0.90mm); LastUpdated: 9/2/2020 1:21:57 AM; Lifecycle Status: Active; Load Capacitance: 8pF; Minimum Order: 1; Mounting Type: Surface Mount; Operating Temperature: -10°C ~ 70°C; Package / Case: 4-SMD, No Lead; Packaging: TapeAndReel; PartId: 504; Part Status: Active; Price: 0.33; Series: CX3225GB, Kyocera; Size / Dimension: 0.126" L x 0.098" W (3.20mm x 2.50mm); Supplier 1: DigiKey; Supplier Part Number 1: 1253-1196-1-ND; Type: MHz Crystal; Value: 24MHz
footprint KYOCERA CX3225GB
pins: 1, 3

## CX3225GB24000P0HPQCC
designator Y?, comment 24MHz
CRYSTAL 24.0000MHZ 18PF SMD; Part Number: CX3225GB24000P0HPQCC; Manufacturer: Kyocera International Inc. Electronic Components; ESR (Equivalent Series Resistance): 60 Ohms; Frequency Stability: ±30ppm; Frequency Tolerance: ±20ppm; Operating Mode: Fundamental; ComponentLink1Description: Datasheet; ComponentLink1URL: //media.digikey.com/pdf/Data%20Sheets/AVX%20PDFs/CX3225GB_Series_Spec.pdf; ComponentLink2Description: DigiKey Link; ComponentLink2URL: http://digikey.com/product-detail/en/kyocera-international-inc-electronic-components/CX3225GB24000P0HPQCC/1253-1198-1-ND/4454036; Frequency: 24MHz; Height - Seated (Max): 0.035" (0.90mm); LastUpdated: 9/2/2020 1:21:57 AM; Lifecycle Status: Active; Load Capacitance: 18pF; Minimum Order: 1; Mounting Type: Surface Mount; Operating Temperature: -40°C ~ 85°C; Package / Case: 4-SMD, No Lead; Packaging: TapeAndReel; PartId: 491; Part Status: Active; Price: 0.35; Series: CX3225GB, Kyocera; Size / Dimension: 0.126" L x 0.098" W (3.20mm x 2.50mm); Supplier 1: DigiKey; Supplier Part Number 1: 1253-1198-1-ND; Type: MHz Crystal; Value: 24MHz
footprint KYOCERA CX3225GB
pins: 1, 3

## CX3225GB24576D0HPQCC
designator Y?, comment 24.576MHz
CRYSTAL 24.5760MHZ 8PF SMD; Part Number: CX3225GB24576D0HPQCC; Manufacturer: Kyocera International Inc. Electronic Components; ESR (Equivalent Series Resistance): 60 Ohms; Frequency Stability: ±30ppm; Frequency Tolerance: ±20ppm; Operating Mode: Fundamental; ComponentLink1Description: Datasheet; ComponentLink1URL: //media.digikey.com/pdf/Data%20Sheets/AVX%20PDFs/CX3225GBxD0HPQCC_Series_Spec.pdf; ComponentLink2Description: DigiKey Link; ComponentLink2URL: http://digikey.com/product-detail/en/kyocera-international-inc-electronic-components/CX3225GB24576D0HPQCC/1253-1200-1-ND/4454013; Frequency: 24.576MHz; Height - Seated (Max): 0.035" (0.90mm); LastUpdated: 9/2/2020 1:21:57 AM; Lifecycle Status: Active; Load Capacitance: 8pF; Minimum Order: 1; Mounting Type: Surface Mount; Operating Temperature: -40°C ~ 85°C; Package / Case: 4-SMD, No Lead; Packaging: TapeAndReel; PartId: 486; Part Status: Active; Price: 0.39; Series: CX3225GB, Kyocera; Size / Dimension: 0.126" L x 0.098" W (3.20mm x 2.50mm); Supplier 1: DigiKey; Supplier Part Number 1: 1253-1200-1-ND; Type: MHz Crystal; Value: 24.576MHz
footprint KYOCERA CX3225GB
pins: 1, 3

## CX3225GB25000D0HEQCC
designator Y?, comment 25MHz
CRYSTAL 25.0000MHZ 8PF SMD; Part Number: CX3225GB25000D0HEQCC; Manufacturer: Kyocera International Inc. Electronic Components; ESR (Equivalent Series Resistance): 60 Ohms; Frequency Stability: ±30ppm; Frequency Tolerance: ±20ppm; Operating Mode: Fundamental; ComponentLink1Description: Datasheet; ComponentLink1URL: //media.digikey.com/pdf/Data%20Sheets/AVX%20PDFs/CX3225GBxD0HEQ_Series_Spec.pdf; ComponentLink2Description: DigiKey Link; ComponentLink2URL: http://digikey.com/product-detail/en/kyocera-international-inc-electronic-components/CX3225GB25000D0HEQCC/1253-1202-1-ND/4453993; Frequency: 25MHz; Height - Seated (Max): 0.035" (0.90mm); LastUpdated: 9/2/2020 1:21:57 AM; Lifecycle Status: Active; Load Capacitance: 8pF; Minimum Order: 1; Mounting Type: Surface Mount; Operating Temperature: -10°C ~ 70°C; Package / Case: 4-SMD, No Lead; Packaging: TapeAndReel; PartId: 494; Part Status: Active; Price: 0.38; Series: CX3225GB, Kyocera; Size / Dimension: 0.126" L x 0.098" W (3.20mm x 2.50mm); Supplier 1: DigiKey; Supplier Part Number 1: 1253-1202-1-ND; Type: MHz Crystal; Value: 25MHz
footprint KYOCERA CX3225GB
pins: 1, 3

## CX3225GB25000D0HPQCC
designator Y?, comment 25MHz
CRYSTAL 25.0000MHZ 8PF SMD; Part Number: CX3225GB25000D0HPQCC; Manufacturer: Kyocera International Inc. Electronic Components; ESR (Equivalent Series Resistance): 60 Ohms; Frequency Stability: ±30ppm; Frequency Tolerance: ±20ppm; Operating Mode: Fundamental; ComponentLink1Description: Datasheet; ComponentLink1URL: //media.digikey.com/pdf/Data%20Sheets/AVX%20PDFs/CX3225GBxD0HPQCC_Series_Spec.pdf; ComponentLink2Description: DigiKey Link; ComponentLink2URL: http://digikey.com/product-detail/en/kyocera-international-inc-electronic-components/CX3225GB25000D0HPQCC/1253-1203-1-ND/4454014; Frequency: 25MHz; Height - Seated (Max): 0.035" (0.90mm); LastUpdated: 9/2/2020 1:21:57 AM; Lifecycle Status: Active; Load Capacitance: 8pF; Minimum Order: 1; Mounting Type: Surface Mount; Operating Temperature: -40°C ~ 85°C; Package / Case: 4-SMD, No Lead; Packaging: TapeAndReel; PartId: 505; Part Status: Active; Price: 0.39; Series: CX3225GB, Kyocera; Size / Dimension: 0.126" L x 0.098" W (3.20mm x 2.50mm); Supplier 1: DigiKey; Supplier Part Number 1: 1253-1203-1-ND; Type: MHz Crystal; Value: 25MHz
footprint KYOCERA CX3225GB
pins: 1, 3

## CX3225GB25000P0HPQCC
designator Y?, comment 25MHz
CRYSTAL 25.0000MHZ 18PF SMD; Part Number: CX3225GB25000P0HPQCC; Manufacturer: Kyocera International Inc. Electronic Components; ESR (Equivalent Series Resistance): 60 Ohms; Frequency Stability: ±30ppm; Frequency Tolerance: ±20ppm; Operating Mode: Fundamental; ComponentLink1Description: Datasheet; ComponentLink1URL: //media.digikey.com/pdf/Data%20Sheets/AVX%20PDFs/CX3225GB_Series_Spec.pdf; ComponentLink2Description: DigiKey Link; ComponentLink2URL: http://digikey.com/product-detail/en/kyocera-international-inc-electronic-components/CX3225GB25000P0HPQCC/1253-1204-1-ND/4454038; Frequency: 25MHz; Height - Seated (Max): 0.035" (0.90mm); LastUpdated: 9/2/2020 1:21:57 AM; Lifecycle Status: Active; Load Capacitance: 18pF; Minimum Order: 1; Mounting Type: Surface Mount; Operating Temperature: -40°C ~ 85°C; Package / Case: 4-SMD, No Lead; Packaging: TapeAndReel; PartId: 500; Part Status: Active; Price: 0.41; Series: CX3225GB, Kyocera; Size / Dimension: 0.126" L x 0.098" W (3.20mm x 2.50mm); Supplier 1: DigiKey; Supplier Part Number 1: 1253-1204-1-ND; Type: MHz Crystal; Value: 25MHz
footprint KYOCERA CX3225GB
pins: 1, 3

## CX3225GB27000D0HEQCC
designator Y?, comment 27MHz
CRYSTAL 27.0000MHZ 8PF SMD; Part Number: CX3225GB27000D0HEQCC; Manufacturer: Kyocera International Inc. Electronic Components; ESR (Equivalent Series Resistance): 50 Ohms; Frequency Stability: ±30ppm; Frequency Tolerance: ±20ppm; Operating Mode: Fundamental; ComponentLink1Description: Datasheet; ComponentLink1URL: //media.digikey.com/pdf/Data%20Sheets/AVX%20PDFs/CX3225GBxD0HEQ_Series_Spec.pdf; ComponentLink2Description: DigiKey Link; ComponentLink2URL: http://digikey.com/product-detail/en/kyocera-international-inc-electronic-components/CX3225GB27000D0HEQCC/1253-1205-1-ND/4453994; Frequency: 27MHz; Height - Seated (Max): 0.035" (0.90mm); LastUpdated: 9/2/2020 1:21:56 AM; Lifecycle Status: Active; Load Capacitance: 8pF; Minimum Order: 1; Mounting Type: Surface Mount; Operating Temperature: -10°C ~ 70°C; Package / Case: 4-SMD, No Lead; Packaging: TapeAndReel; PartId: 511; Part Status: Active; Price: 0.38; Series: CX3225GB, Kyocera; Size / Dimension: 0.126" L x 0.098" W (3.20mm x 2.50mm); Supplier 1: DigiKey; Supplier Part Number 1: 1253-1205-1-ND; Type: MHz Crystal; Value: 27MHz
footprint KYOCERA CX3225GB
pins: 1, 3

## CX3225GB27000P0HPQCC
designator Y?, comment 27MHz
CRYSTAL 27.0000MHZ 18PF SMD; Part Number: CX3225GB27000P0HPQCC; Manufacturer: Kyocera International Inc. Electronic Components; ESR (Equivalent Series Resistance): 50 Ohms; Frequency Stability: ±30ppm; Frequency Tolerance: ±20ppm; Operating Mode: Fundamental; ComponentLink1Description: Datasheet; ComponentLink1URL: //media.digikey.com/pdf/Data%20Sheets/AVX%20PDFs/CX3225GB_Series_Spec.pdf; ComponentLink2Description: DigiKey Link; ComponentLink2URL: http://digikey.com/product-detail/en/kyocera-international-inc-electronic-components/CX3225GB27000P0HPQCC/1253-1207-1-ND/4454039; Frequency: 27MHz; Height - Seated (Max): 0.035" (0.90mm); LastUpdated: 9/2/2020 1:21:57 AM; Lifecycle Status: Active; Load Capacitance: 18pF; Minimum Order: 1; Mounting Type: Surface Mount; Operating Temperature: -40°C ~ 85°C; Package / Case: 4-SMD, No Lead; Packaging: TapeAndReel; PartId: 498; Part Status: Active; Price: 0.39; Series: CX3225GB, Kyocera; Size / Dimension: 0.126" L x 0.098" W (3.20mm x 2.50mm); Supplier 1: DigiKey; Supplier Part Number 1: 1253-1207-1-ND; Type: MHz Crystal; Value: 27MHz
footprint KYOCERA CX3225GB
pins: 1, 3

## CX3225GB27120P0HPQCC
designator Y?, comment 27.12MHz
CRYSTAL 27.1200MHZ 18PF SMD; Part Number: CX3225GB27120P0HPQCC; Manufacturer: Kyocera International Inc. Electronic Components; ESR (Equivalent Series Resistance): 50 Ohms; Frequency Stability: ±30ppm; Frequency Tolerance: ±20ppm; Operating Mode: Fundamental; ComponentLink1Description: Datasheet; ComponentLink1URL: //media.digikey.com/pdf/Data%20Sheets/AVX%20PDFs/CX3225GB_Series_Spec.pdf; ComponentLink2Description: DigiKey Link; ComponentLink2URL: http://digikey.com/product-detail/en/kyocera-international-inc-electronic-components/CX3225GB27120P0HPQCC/1253-1208-1-ND/4454040; Frequency: 27.12MHz; Height - Seated (Max): 0.035" (0.90mm); LastUpdated: 9/2/2020 1:21:57 AM; Lifecycle Status: Active; Load Capacitance: 18pF; Minimum Order: 1; Mounting Type: Surface Mount; Operating Temperature: -40°C ~ 85°C; Package / Case: 4-SMD, No Lead; Packaging: TapeAndReel; PartId: 501; Part Status: Active; Price: 0.41; Series: CX3225GB, Kyocera; Size / Dimension: 0.126" L x 0.098" W (3.20mm x 2.50mm); Supplier 1: DigiKey; Supplier Part Number 1: 1253-1208-1-ND; Type: MHz Crystal; Value: 27.12MHz
footprint KYOCERA CX3225GB
pins: 1, 3

## CX3225GB32000D0HEQCC
designator Y?, comment 32MHz
CRYSTAL 32.0000MHZ 8PF SMD; Part Number: CX3225GB32000D0HEQCC; Manufacturer: Kyocera International Inc. Electronic Components; ESR (Equivalent Series Resistance): 50 Ohms; Frequency Stability: ±30ppm; Frequency Tolerance: ±20ppm; Operating Mode: Fundamental; ComponentLink1Description: Datasheet; ComponentLink1URL: //media.digikey.com/pdf/Data%20Sheets/AVX%20PDFs/CX3225GBxD0HEQ_Series_Spec.pdf; ComponentLink2Description: DigiKey Link; ComponentLink2URL: http://digikey.com/product-detail/en/kyocera-international-inc-electronic-components/CX3225GB32000D0HEQCC/1253-1212-1-ND/4453996; Frequency: 32MHz; Height - Seated (Max): 0.035" (0.90mm); LastUpdated: 9/2/2020 1:21:57 AM; Lifecycle Status: Active; Load Capacitance: 8pF; Minimum Order: 1; Mounting Type: Surface Mount; Operating Temperature: -10°C ~ 70°C; Package / Case: 4-SMD, No Lead; Packaging: TapeAndReel; PartId: 493; Part Status: Active; Price: 0.38; Series: CX3225GB, Kyocera; Size / Dimension: 0.126" L x 0.098" W (3.20mm x 2.50mm); Supplier 1: DigiKey; Supplier Part Number 1: 1253-1212-1-ND; Type: MHz Crystal; Value: 32MHz
footprint KYOCERA CX3225GB
pins: 1, 3

## CX3225GB33333P0HPQCC
designator Y?, comment 33.333MHz
CRYSTAL 33.3330MHZ 18PF SMD; Part Number: CX3225GB33333P0HPQCC; Manufacturer: Kyocera International Inc. Electronic Components; ESR (Equivalent Series Resistance): 50 Ohms; Frequency Stability: ±30ppm; Frequency Tolerance: ±20ppm; Operating Mode: Fundamental; ComponentLink1Description: Datasheet; ComponentLink1URL: //media.digikey.com/pdf/Data%20Sheets/AVX%20PDFs/CX3225GB_Series_Spec.pdf; ComponentLink2Description: DigiKey Link; ComponentLink2URL: http://digikey.com/product-detail/en/kyocera-international-inc-electronic-components/CX3225GB33333P0HPQCC/1253-1217-1-ND/4454043; Frequency: 33.333MHz; Height - Seated (Max): 0.035" (0.90mm); LastUpdated: 9/2/2020 1:21:57 AM; Lifecycle Status: Active; Load Capacitance: 18pF; Minimum Order: 1; Mounting Type: Surface Mount; Operating Temperature: -40°C ~ 85°C; Package / Case: 4-SMD, No Lead; Packaging: TapeAndReel; PartId: 499; Part Status: Active; Price: 0.39; Series: CX3225GB, Kyocera; Size / Dimension: 0.126" L x 0.098" W (3.20mm x 2.50mm); Supplier 1: DigiKey; Supplier Part Number 1: 1253-1217-1-ND; Type: MHz Crystal; Value: 33.333MHz
footprint KYOCERA CX3225GB
pins: 1, 3

## CX3225GB36000P0HPQCC
designator Y?, comment 36MHz
CRYSTAL 36.0000MHZ 18PF SMD; Part Number: CX3225GB36000P0HPQCC; Manufacturer: Kyocera International Inc. Electronic Components; ESR (Equivalent Series Resistance): 50 Ohms; Frequency Stability: ±30ppm; Frequency Tolerance: ±20ppm; Operating Mode: Fundamental; ComponentLink1Description: Datasheet; ComponentLink1URL: //media.digikey.com/pdf/Data%20Sheets/AVX%20PDFs/CX3225GB_Series_Spec.pdf; ComponentLink2Description: DigiKey Link; ComponentLink2URL: http://digikey.com/product-detail/en/kyocera-international-inc-electronic-components/CX3225GB36000P0HPQCC/1253-1218-1-ND/4454044; Frequency: 36MHz; Height - Seated (Max): 0.035" (0.90mm); LastUpdated: 9/2/2020 1:21:56 AM; Lifecycle Status: Active; Load Capacitance: 18pF; Minimum Order: 1; Mounting Type: Surface Mount; Operating Temperature: -40°C ~ 85°C; Package / Case: 4-SMD, No Lead; Packaging: TapeAndReel; PartId: 514; Part Status: Active; Price: 0.39; Series: CX3225GB, Kyocera; Size / Dimension: 0.126" L x 0.098" W (3.20mm x 2.50mm); Supplier 1: DigiKey; Supplier Part Number 1: 1253-1218-1-ND; Type: MHz Crystal; Value: 36MHz
footprint KYOCERA CX3225GB
pins: 1, 3

## CX3225GB49152P0HPQCC
designator Y?, comment 49.152MHz
CRYSTAL 49.1520MHZ 18PF SMD; Part Number: CX3225GB49152P0HPQCC; Manufacturer: Kyocera International Inc. Electronic Components; ESR (Equivalent Series Resistance): 50 Ohms; Frequency Stability: ±30ppm; Frequency Tolerance: ±20ppm; Operating Mode: Fundamental; ComponentLink1Description: Datasheet; ComponentLink1URL: //media.digikey.com/pdf/Data%20Sheets/AVX%20PDFs/CX3225GB_Series_Spec.pdf; ComponentLink2Description: DigiKey Link; ComponentLink2URL: http://digikey.com/product-detail/en/kyocera-international-inc-electronic-components/CX3225GB49152P0HPQCC/1253-1346-1-ND/4896436; Frequency: 49.152MHz; Height - Seated (Max): 0.035" (0.90mm); LastUpdated: 9/2/2020 1:21:57 AM; Lifecycle Status: Active; Load Capacitance: 18pF; Minimum Order: 1; Mounting Type: Surface Mount; Operating Temperature: -40°C ~ 85°C; Package / Case: 4-SMD, No Lead; Packaging: TapeAndReel; PartId: 502; Part Status: Active; Price: 0.36; Series: CX3225GB, Kyocera; Size / Dimension: 0.126" L x 0.098" W (3.20mm x 2.50mm); Supplier 1: DigiKey; Supplier Part Number 1: 1253-1346-1-ND; Type: MHz Crystal; Value: 49.152MHz
footprint KYOCERA CX3225GB
pins: 1, 3

## ECS-120-20-3X-EN-TR
designator Y?, comment 12MHz
CRYSTAL 12.0000MHZ 20PF SMD; Part Number: ECS-120-20-3X-EN-TR; Manufacturer: ECS Inc.; ESR (Equivalent Series Resistance): 60 Ohms; Frequency Stability: ±50ppm; Frequency Tolerance: ±30ppm; Operating Mode: Fundamental; ComponentLink1Description: Datasheet; ComponentLink1URL: http://www.ecsxtal.com/store/pdf/CSM-3X.pdf; ComponentLink2Description: DigiKey Link; ComponentLink2URL: http://digikey.com/product-detail/en/ecs-inc/ECS-120-20-3X-EN-TR/XC1787CT-ND/2676651; Frequency: 12MHz; Height - Seated (Max): 0.091" (2.30mm); LastUpdated: 9/2/2020 1:21:54 AM; Lifecycle Status: Active; Load Capacitance: 20pF; Minimum Order: 1; Mounting Type: Surface Mount; Operating Temperature: -40°C ~ 85°C; Package / Case: HC-49/US; Packaging: TapeAndReel; PartId: 407; Part Status: Active; Price: 0.24; Series: CSM-3X; Size / Dimension: 0.276" L x 0.161" W (7.00mm x 4.10mm); Supplier 1: DigiKey; Supplier Part Number 1: XC1787CT-ND; Type: MHz Crystal; Value: 12MHz
footprint ECS CSM-3X
pins: 1, 2

## ECS-120-20-3X-TR
designator Y?, comment 12MHz
CRYSTAL 12.0000MHZ 20PF SMD; Part Number: ECS-120-20-3X-TR; Manufacturer: ECS Inc.; ESR (Equivalent Series Resistance): 60 Ohms; Frequency Stability: ±50ppm; Frequency Tolerance: ±30ppm; Operating Mode: Fundamental; ComponentLink1Description: Datasheet; ComponentLink1URL: http://www.ecsxtal.com/store/pdf/CSM-3X.pdf; ComponentLink2Description: DigiKey Link; ComponentLink2URL: http://digikey.com/product-detail/en/ecs-inc/ECS-120-20-3X-TR/XC1770CT-ND/2676634; Frequency: 12MHz; Height - Seated (Max): 0.091" (2.30mm); LastUpdated: 9/2/2020 1:21:54 AM; Lifecycle Status: Active; Load Capacitance: 20pF; Minimum Order: 1; Mounting Type: Surface Mount; Operating Temperature: -10°C ~ 70°C; Package / Case: HC-49/US; Packaging: TapeAndReel; PartId: 401; Part Status: Active; Price: 0.17; Series: CSM-3X; Size / Dimension: 0.276" L x 0.161" W (7.00mm x 4.10mm); Supplier 1: DigiKey; Supplier Part Number 1: XC1770CT-ND; Type: MHz Crystal; Value: 12MHz
footprint ECS CSM-3X
pins: 1, 2